# EAGLE library part OPA454 (library OPA454)
TexasInstruments High-Voltage (100V), High-Current (50mA) Operatioanl Amplifier, G = 1 Stable http://focus.ti.com/lit/ds/symlink/opa454.pdf
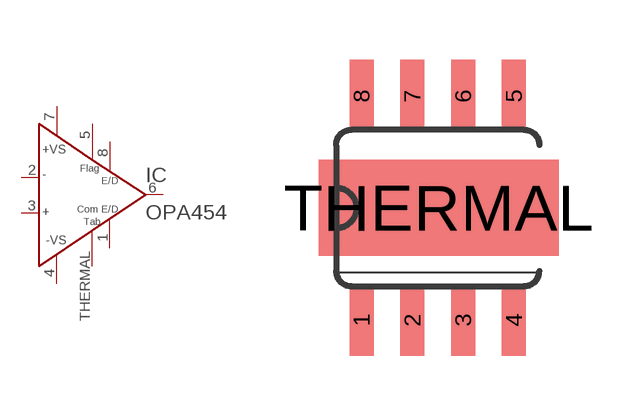
[diagram p0: symbol with the pads of SO08GP; footprint SO08GP]

Designator prefix IC

## OPA454 (Availability: Unavailable; Description: High Voltage _100V_ High-Current _50mA_ Operational Amplifiers G=1 Stable; MF: Texas Instruments; MP: OPA454; Package: None; Price: None)  [SO08GP]
1  E/DCOM  pas
2  IN-  in
3  IN+  in
4  -VS  pas
5  STATUS  pas
6  OUT  out
7  +VS  pas
8  E/D  pas
THERMAL  E/DCOM1  pas

## Footprint SO08GP (pad centres in mm)
smd 0.6 x 1.8: 1 -1.925,-2.8; 2 -0.655,-2.8; 3 0.615,-2.8; 4 1.885,-2.8; 5 1.885,2.8; 6 0.615,2.8; 7 -0.655,2.8; 8 -1.925,2.8
smd 6 x 2.4: THERMAL 0,0